# Altium schematic symbol library K-LED-FUSE.SchLib: 166 symbols (part 1 of 2)
Pins are listed as number, name and electrical type; pins without a type are passive.

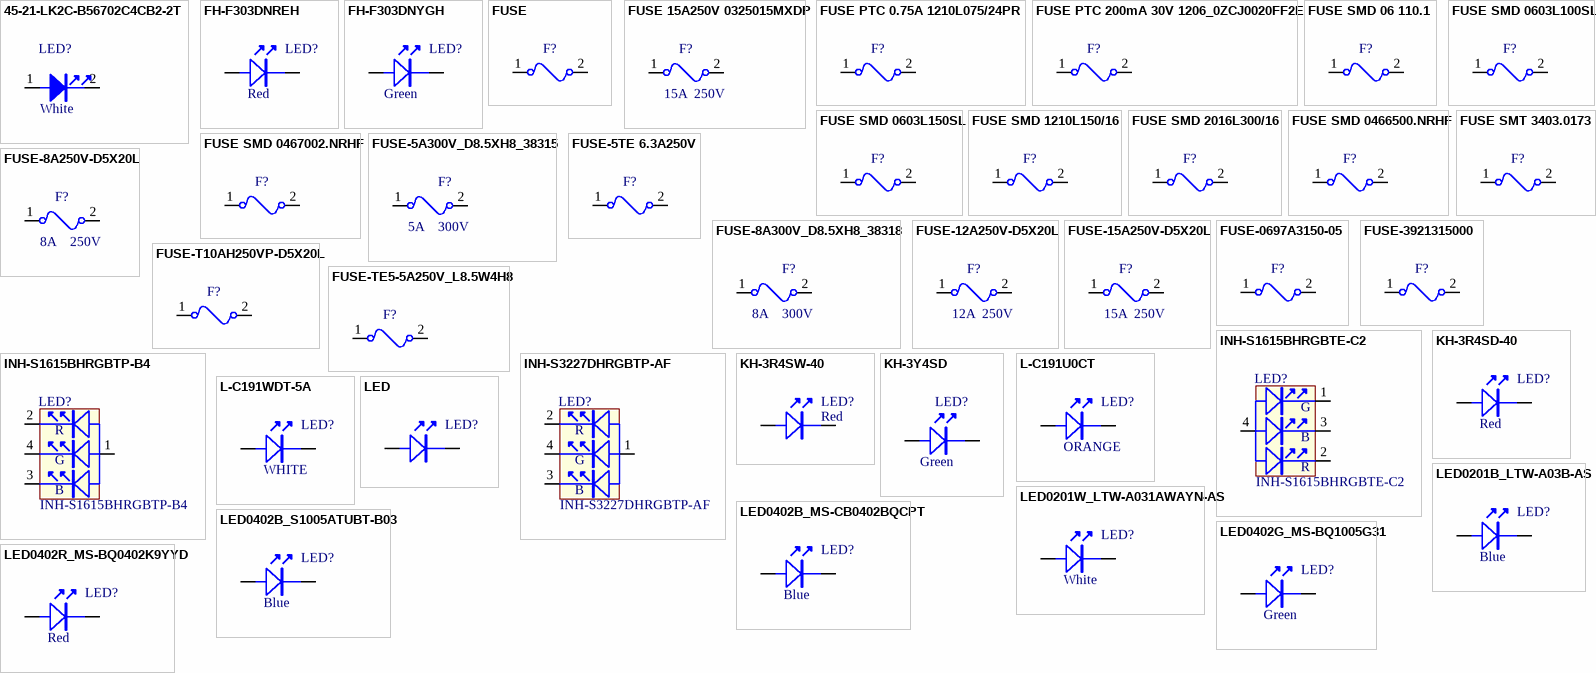
[diagram p0: symbols 45-21-LK2C-B56702C4CB2-2T to LED0402R_MS-BQ0402K9YYD]

## 45-21-LK2C-B56702C4CB2-2T
designator LED?, comment Color: White  (hidden comment: KCD900007-0010)
CHIP LED 45-21-LK2C-B56702C4CB2-2T WHITE 3X2MM 7000K; SAP: T575010560202; MFG: EVERLIGHT; CREATE_NAME: Tom; DIP&SMD: SMD; MFG Part: 45-21-LK2C-B56702C4CB2-2T; Vendor Code: *; Vendor Name: *; Type: LED; CREATE_TIME: 06-May-2015
footprint 45-21-LK2C-B56702C4CB2-2T
pins: 1, 2

## FH-F303DNREH
designator LED?, comment Color: Red  (hidden comment: KED200001-0010)
RED LED 2PIN 3 HIGH LIGHT FH-F303DNREH; SAP: T575009720159; Vendor Code: 10020224; Vendor Name: 深圳市富毅华科技有限公司; MFG: 富毅华; Voltage: 2V; DIP&SMD: DIP; MFG Part: FH-F303DNREH; Type: LED
footprint 3mm LED-R W/Holder_22.5mm (LED DIP Pitch 2.54mm With 22.5 Holder)
footprint 3mm LED-R (LED DIP Pitch 2.54mm)
pins: 1 A, 2 K

## FH-F303DNYGH
designator LED?, comment Color: Green  (hidden comment: KED900007-0010)
LED 3DIA GREEN P=2.54; MFG Part: FH-F303DNYGH; SAP: T575009910159; Vendor Code: 10020224; Vendor Name: 深圳市富毅华科技有限公司; MFG: 富毅华; Voltage: 2.2V; DIP&SMD: DIP; Type: LED
footprint 3mm LED-G (LED DIP Pitch 2.54mm)
footprint 3mm LED-G W/Holder_22.5mm (LED DIP Pitch 2.54mm With 22.5 Holder)
pins: 1 A, 2 K

## FUSE
designator F?
pins: 1, 2

## FUSE 15A250V 0325015MXDP
designator F?  Current: 15A  Voltage: 250V  (hidden comment: *)
FUSE CERAMIC 250V 15A 5.5X2 02150 K; MFG Part: 0325015.MXDP; MFG: Littelfuse; DIP&SMD: DIP; CREATE TIME: 20201029; CREATE NAME: Cherry; SAP: *; Vendor Code: *; Vendor Name: *; Type: FUSE
footprint FUSE-D6.985X32.72L-H (Fuse Body D6.985mm X 32.72mm L)
pins: 1, 2

## FUSE PTC 0.75A 1210L075/24PR
designator F?, comment T690100005200  (value not drawn)
FUSE PTC FUSE 24V 0.75A 1210 1210L K; MFG Part: 1210L075\24PR; MFG: LITTELFUSE; CREATE_NAME: Tom; DIP&SMD: SMD; SAP: T690100005200; Vendor Code: *; Vendor Name: *; Voltage: 24V; Current: 0.75A; Type: FUSE; CREATE_TIME: 05-Aug-2019
footprint 1210-RW
pins: 1, 2

## FUSE PTC 200mA 30V 1206_0ZCJ0020FF2E
designator F?, comment T690100003000  (value not drawn)
FUSE FUSE 30V 200MA 1206 0ZCJ0 K; MFG Part: 0ZCJ0020FF2E; MFG: BEL FUSE; CREATE_NAME: Nathan; DIP&SMD: SMD; SAP: T690100003000; Vendor Code: *; Vendor Name: *; Voltage: 30V; Current: 200mA; Type: FUSE; CREATE_Time: 07-Nov-2017
footprint FUSE PTC 1206
pins: 1, 2

## FUSE SMD 06 110.1
designator F?
Fuse ,0603_1A 06 110.1,ASTM; MFG: Advanced SurgeTech Materials Ltd; Current: 2A; CREATE_NAME: Nathan; DIP&SMD: SMD; SAP: *; Vendor Code: *; Vendor Name: *; MFG Part: 06 110.1; Voltage: *; Type: FUSE; CREATE_Time: 10-Mar-2021
footprint FUSE SMD 0603 H0.48
pins: 1, 2

## FUSE SMD 0603L100SL
designator F?
FUSE 0603L100SL; MFG: Littelfuse; CREATE_NAME: Nathan; DIP&SMD: SMD; SAP: *; Vendor Code: *; Vendor Name: *; MFG Part: 0603L100SL; Voltage: *; Type: FUSE; CREATE_Time: 31-May-2021
footprint FUSE SMD 0603 H0.75 (Size: 0603 H: 0.4mm-0.75mm)
pins: 1, 2

## FUSE SMD 0603L150SL
designator F?
FUSE 0603L150SL; MFG: Littelfuse; CREATE_NAME: Nathan; DIP&SMD: SMD; SAP: *; Vendor Code: *; Vendor Name: *; MFG Part: 0603L150SL; Voltage: *; Type: FUSE; CREATE_Time: 31-May-2021
footprint FUSE SMD 0603 H1.0 (Size: 0603 H: 0.4mm-1mm)
pins: 1, 2

## FUSE SMD 1210L150/16
designator F?
FUSE-1.5A 16V; MFG Part: 1210L150/16; MFG: Littelfuse; Current: 2A; Type: FUSE; CREATE_NAME: Nathan; DIP&SMD: SMD; SAP: *; Vendor Code: *; Vendor Name: *; Voltage: *; CREATE_Time: 20-Nov-2020
footprint FUSE SMD 1210
pins: 1, 2

## FUSE SMD 2016L300/16
designator F?
FUSE 2016L300\16; MFG: Littelfuse; Current: 2A; CREATE_NAME: Nathan; DIP&SMD: SMD; SAP: *; Vendor Code: *; Vendor Name: *; MFG Part: 2016L300\16; Voltage: *; Type: FUSE; CREATE_Time: 29-Apr-2021
footprint FSMD2016_H1.6
pins: 1, 2

## FUSE SMD 0466500.NRHF
designator F?
FUSE SMD 63V 0.5A SMD12 0466. W; MFG Part: 0466500.NRHF; SAP: T690100001700; MFG: Littelfuse; CREATE_NAME: Nathan; Vendor Code: *; Vendor Name: *; Voltage: 63V; Current: 0.5A; Type: FUSE; CREATE_Time: 28-Oct-2020; DIP&SMD: SMD
footprint FUSE PTC 1206
pins: 1, 2

## FUSE SMD 0467002.NRHF
designator F?
2A Fuse ,0603_2A0467002.NRHF; MFG: Littelfuse; CREATE_NAME: Nathan; DIP&SMD: SMD; SAP: *; Vendor Code: *; Vendor Name: *; MFG Part: 0467002.NRHF; Voltage: *; Current: 2A; Type: FUSE; CREATE_Time: 19-Nov-2020
footprint FUSE SMD 0603
pins: 1, 2

## FUSE SMT 3403.0173
designator F?  (value not drawn)
FUSE BOARD MNT 5A 250VAC 125VDC; MFG Part: 3403.0173; MFG: Schurter; Current: 1A; CREATE_NAME: Nathan; DIP&SMD: SMD; SAP: *; Vendor Code: *; Vendor Name: *; Voltage: *; Type: FUSE; CREATE_Time: 01-Jul-2020
footprint FUSE SMT 3403.0173 (Body Size: 10.1X3X3mm)
pins: 1, 2

## FUSE-5A300V_D8.5XH8_38315
designator F?, comment Current: 5A  Voltage: 300V  (hidden comment: T690100004800)
FUSE DIP FUSE 300V 5A 8X8.5 38315 K; MFG Part: 38315000000; MFG: Littelfuse; CREATE_NAME: Cherry; CREATE_TIME: 20180103; SAP: T690100004800; Type: FUSE; DIP&SMD: DIP; Customer Specific: N/A
footprint FUSE-383
pins: 1, 2

## FUSE-5TE 6.3A250V
designator F?, comment KOFA20203-0190  (value not drawn)
FUSE SS-5 6.3A 250V 8.5*4.3mm UL/VDE/PSE; MFG Part: FUSE-5TE 6.3A250V; SAP: T690100000200; Vendor Code: 10010322; Vendor Name: 东莞市亿山电子有限公司; MFG: 亿山; DIP&SMD: DIP; Current: 6.3A; Voltage: 250V; Type: FUSE
footprint FUSE-5TE-8440 (Fuse DIP Body 8.4mm X 4mm H7.2mm)
pins: 1, 2

## FUSE-8A250V-D5X20L
designator F?, comment Current: 8A  Voltage: 250V  (hidden comment: T690100004600)
FUSE CERAMIC 250V 8A 5.5X2 02150 K; MFG Part: 0215008.MXEP; MFG: Littelfuse; DIP&SMD: DIP; CREATE NAME: Nathan; SAP: T690100004600; Vendor Code: *; Vendor Name: *; Type: FUSE; CREATE TIME: 22-NOV-2018
footprint FUSE-5T-D5X20L-H (Fuse 5T Body D5mm X 20mm L)
pins: 1, 2

## FUSE-8A300V_D8.5XH8_38318
designator F?, comment Current: 8A  Voltage: 300V  (hidden comment: T690100004000)
FUSE DIP FUSE 300V 8A 8MMX8 38318 K; MFG Part: 38318000000; MFG: Littelfuse; CREATE_NAME: Cherry; CREATE_TIME: 20180103; SAP: T690100004000; Type: FUSE; DIP&SMD: DIP; Customer Specific: N/A
footprint FUSE-383
pins: 1, 2

## FUSE-12A250V-D5X20L
designator F?, comment Current: 12A  Voltage: 250V  (hidden comment: T690100005300)
FUSE CERAMIC 250V 12A 5.5X2 21501 K; MFG Part: 0215012.MXEP; MFG: Littelfuse; DIP&SMD: DIP; CREATE NAME: Nathan; SAP: T690100005300; Vendor Code: *; Vendor Name: *; Type: FUSE; CREATE TIME: 08-Oct-2019
footprint FUSE-5T-D5X20L-H (Fuse 5T Body D5mm X 20mm L)
pins: 1, 2

## FUSE-15A250V-D5X20L
designator F?, comment Current: 15A  Voltage: 250V  (hidden comment: T690100004700)
FUSE CERAMIC 250V 15A 5.5X2 02150 K; MFG Part: 0215015.MXEP; MFG: Littelfuse; DIP&SMD: DIP; CREATE NAME: Nathan; SAP: T690100004700; Vendor Code: *; Vendor Name: *; Type: FUSE; CREATE TIME: 22-NOV-2018
footprint FUSE-5T-D5X20L-H (Fuse 5T Body D5mm X 20mm L)
pins: 1, 2

## FUSE-0697A3150-05
designator F?, comment T690100005600  (value not drawn)
FUSE DIP FUSE 250V 3.15A 8.35X 0697A K; MFG Part: 0697A3150-05; MFG: BEL; CREATE_NAME: Tom; SAP: T690100005600; Current: 3.15A; Voltage: 250V; Type: FUSE; CREATE_TIME: 18-Oct-2019; DIP&SMD: DIP
footprint FUSE-0697A3150-05
pins: 1, 2

## FUSE-3921315000
designator F?, comment T690100003200  (value not drawn)
FUSE DIP FUSE 250V 3.15A TE5 ( 39213 K; MFG Part: 3921315000; MFG: LITTELFUSE; CREATE_NAME: Tom; SAP: T690100003200; Current: 3.15A; Voltage: 250V; Type: FUSE; CREATE_TIME: 18-Oct-2019; DIP&SMD: DIP
footprint FUSE-39213150440
pins: 1, 2

## FUSE-T10AH250VP-D5X20L
designator F?, comment KSFA20100-0031  (value not drawn)
FUSE SLOW UL/VDE Littelfuse 250V 10A; MFG Part: T10AH250VP; SAP: T690100001100; Current: 15A; DIP&SMD: DIP; Vendor Code: *; Vendor Name: *; MFG: Littelfuse; Voltage: 250V; Type: FUSE
footprint FUSE-5T-D5X20L-H (Fuse 5T Body D5mm X 20mm L)
footprint FUSE-5T-D5X20L-V (Fuse 5T Body D5mm X 20mm L)
pins: 1, 2

## FUSE-TE5-5A250V_L8.5W4H8
designator F?, comment T690100003600  (value not drawn)
FUSE DIP FUSE 250V 5A 8X8.5 39215 K; MFG Part: 39215000000; MFG: Littelfuse; CREATE_NAME: Nathan; SAP: T690100003600; Vendor Code: *; Vendor Name: *; Current: 5A; Voltage: 250V; Type: FUSE; CREATE_TIME: 11-Sep-2017; DIP&SMD: DIP
footprint FUSE-TE5-8540 (Fuse DIP Body 8.5mm X 4mm H8mm)
pins: 1, 2

## INH-S1615BHRGBTE-C2
designator LED?, comment MFG Part: INH-S1615BHRGBTE-C2  (hidden comment: T575011860258)
LED RGB 1615 INH-S1615BHR MINGSHOU G; MFG: MINGSHOU(明碩光電); Vr: 5V; CREATE_NAME: Nathan; If: 30mA; DIP&SMD: SMD; SAP: T575011860258; Vendor Code: *; Vendor Name: *; Package: *; CREATE_TIME: 13-Mar-2017; Type: LED
footprint INH-S1615BHRGBTE-C2 (LED 1615 RGB L1.6mmXW1.5 mm H0.6mm)
pins: 1 G, 2 R, 3 B, 4 COM

## INH-S1615BHRGBTP-B4
designator LED?, comment MFG Part: INH-S1615BHRGBTP-B4  (hidden comment: KCD260003-0010)
SMD RBG LED INH-S1615BHRGBTP-B4; SAP: T575009290258; MFG: 东莞市明硕光电科技有限公司; Voltage: 5V; CREATE_NAME: GordonL@Deftronics; Current: 50mA; Vendor Code: *; Vendor Name: *; Package: *; CREATE_TIME: 07-Jun-2014; Type: LED; DIP&SMD: SMD
footprint SMTLED1.6*1.5-RGB (LED 0805 RGB L1.6mmXW1.5 mm H0.6mm)
pins: 1 A, 2 R, 3 B, 4 G

## INH-S3227DHRGBTP-AF
designator LED?, comment MFG Part: INH-S3227DHRGBTP-AF  (hidden comment: KCD260002-0010)
CHIP LED RGB INH-S3227DHRGBTP-AF 1210 RGB全彩; SAP: T575009270258; MFG: 东莞市明硕光电科技有限公司; Voltage: 5V; CREATE_NAME: Kai Ma@Deftronics; Current: 30mA; DIP&SMD: SMD; Vendor Code: *; Vendor Name: *; Package: *; CREATE_TIME: 4-Dec-2013; Type: LED
footprint SMD3227QRGC (LED DUAL Body 3.2mm X 2.7mm)
pins: 1 A, 2 R, 3 B, 4 G

## KH-3R4SD-40
designator LED?, comment Color: Red  (hidden comment: T575011140158)
RED LED 2PIN 3 HIGH LIGHT FH-F303DNREH; MFG Part: KH-3R4SD-40; MFG: MINGSHOU; Voltage: 5V; CREATE_NAME: Tom; DIP&SMD: DIP; SAP: T575011140158; Vendor Code: *; Vendor Name: *; Type: LED; CREATE_TIME: 04-Mar-2016
footprint 3mm LED-R (LED DIP Pitch 2.54mm)
pins: 1 A, 2 K

## KH-3R4SW-40
designator LED?, comment Color: Red  (hidden comment: KED200004-0010)
LED RED KH-3R4SW-40; SAP: T575009650158; Vendor Name: 深圳市明硕光电科技有限公司; MFG: 明硕; Voltage: 2.4V; CREATE_NAME: Nathan; DIP&SMD: DIP; MFG Part: KH-3R4SW-40; Vendor Code: *; Type: LED; CREATE_TIME: 11-Sep-2014
footprint 3mm LED-R (LED DIP Pitch 2.54mm)
pins: 1 A, 2 K

## KH-3Y4SD
designator LED?, comment Color: Green  (hidden comment: KED400001-0010)
LED YELLOW/ROUND 3DIA LED-G 2P P=2.54mm; MFG Part: KH-3Y4SD; SAP: T575009850153; MFG: 明硕光电; Voltage: 5V; CREATE_NAME: GordonL@Deftronics; DIP&SMD: DIP; Vendor Code: *; Vendor Name: *; Type: LED; CREATE_TIME: 08-Oct-2013
footprint 3mm LED-G (LED DIP Pitch 2.54mm)
pins: 1 A, 2 K

## L-C191U0CT
designator LED?, comment Color: ORANGE  (hidden comment: T575012810223)
LED ORA 1.6X0. L-C191U0CT PARA LIG K; MFG: PARA LIGHT; CREATE_NAME: Tom; Lens Type: Water Clear; DIP&SMD: SMD; MFG Part: L-C191U0CT; SAP: T575012810223; Package: 0603; Vendor Code: *; Vendor Name: *; Type: LED; CREATE_TIME: 26-Aug-2019
footprint LED0603_ORANGE H0.6 (1.6mmX0.8mm SMT LED, 0.6mm thickness)
pins: 1 A, 2 K

## L-C191WDT-5A
designator LED?, comment Color: WHITE  (hidden comment: T575012820223)
LED WHI 1.6X0. L-C191WDT-5A PARA LIG K; MFG: PARA LIGHT; CREATE_NAME: Tom; Lens Type: Water Clear; DIP&SMD: SMD; MFG Part: L-C191WDT-5A; SAP: T575012820223; Package: 0603; Vendor Code: *; Vendor Name: *; Type: LED; CREATE_TIME: 26-Aug-2019
footprint LED0603_WHITE H0.6 (1.6mmX0.8mm SMT LED, 0.6mm thickness)
pins: 1 A, 2 K

## LED
designator LED?
pins: 1 A, 2 K

## LED0201B_LTW-A03B-AS
designator LED?  Color: Blue  (hidden comment: *)
LED  LTW-A03B-AS; MFG: Lite ON; CREATE_NAME: Nathan; DIP&SMD: SMD; MFG Part: LTW-A03B-AS; SAP: *; Package: 0201; Vendor Code: *; Vendor Name: *; Type: LED; CREATE_TIME: 03-Jul-2020
footprint LED0201_BLUE H0.15 (0.6mmX0.3mm SMT LED, 0.15mm thickness)
pins: 1 A, 2 K

## LED0201W_LTW-A031AWAYN-AS
designator LED?  Color: White  (hidden comment: *)
LED  LTW-A031AWAYN-AS; MFG: Lite ON; CREATE_NAME: Nathan; DIP&SMD: SMD; MFG Part: LTW-A031AWAYN-AS; SAP: *; Package: 0201; Vendor Code: *; Vendor Name: *; Type: LED; CREATE_TIME: 26-Dec-2019
footprint LED0201_WHITE H0.15 (0.6mmX0.3mm SMT LED, 0.15mm thickness)
pins: 1 A, 2 K

## LED0402B_MS-CB0402BQCPT
designator LED?  Color: Blue  (hidden comment: *)
LED B 460 1.0X0.5 MS-CB0402BQCPT; MFG: 明碩; CREATE_NAME: Nathan; DIP&SMD: SMD; MFG Part: MS-CB0402BQCPT; SAP: *; Package: 0402; Vendor Code: *; Vendor Name: *; Type: LED; CREATE_TIME: 20-Jun-2020; Lens Type: *
footprint LED0402_BLUE H0.45 (1.0mmX0.5mm SMT LED, 0.45mm thickness)
pins: 1 A, 2 K

## LED0402B_S1005ATUBT-B03
designator LED?  Color: Blue  (hidden comment: *)
LED B 460 1.0X0.5 S1005ATUBT-B03; MFG: inhere; CREATE_NAME: Nathan; DIP&SMD: SMD; MFG Part: S1005ATUBT-B03; SAP: *; Package: 0402; Vendor Code: *; Vendor Name: *; Type: LED; CREATE_TIME: 15-Oct-2020; Lens Type: *
footprint LED0402_BLUE H0.43 (1.0mmX0.5mm SMT LED, 0.43mm thickness)
pins: 1 A, 2 K

## LED0402G_MS-BQ1005G31
designator LED?  Color: Green
LED MS-BQ1005G31; MFG: Foxit; CREATE_NAME: Nathan; DIP&SMD: SMD; MFG Part: MS-BQ1005G31; SAP: *; Package: 0402; Vendor Code: *; Vendor Name: *; Type: LED; CREATE_TIME: 18-Mar-2021; Lens Type: *
footprint LED0402_GREEN H0.45 (1.05mmX0.55mm SMT LED, 0.45mm thickness)
pins: 1 A, 2 K

## LED0402R_MS-BQ0402K9YYD
designator LED?  Color: Red
LED MS-BQ0402K9YYD; MFG: Foxit; CREATE_NAME: Nathan; DIP&SMD: SMD; MFG Part: MS-BQ0402K9YYD; SAP: *; Package: 0402; Vendor Code: *; Vendor Name: *; Type: LED; CREATE_TIME: 18-Mar-2021; Lens Type: *
footprint LED0402_RED H0.45 (1.05mmX0.55mm SMT LED, 0.45mm thickness)
pins: 1 A, 2 K

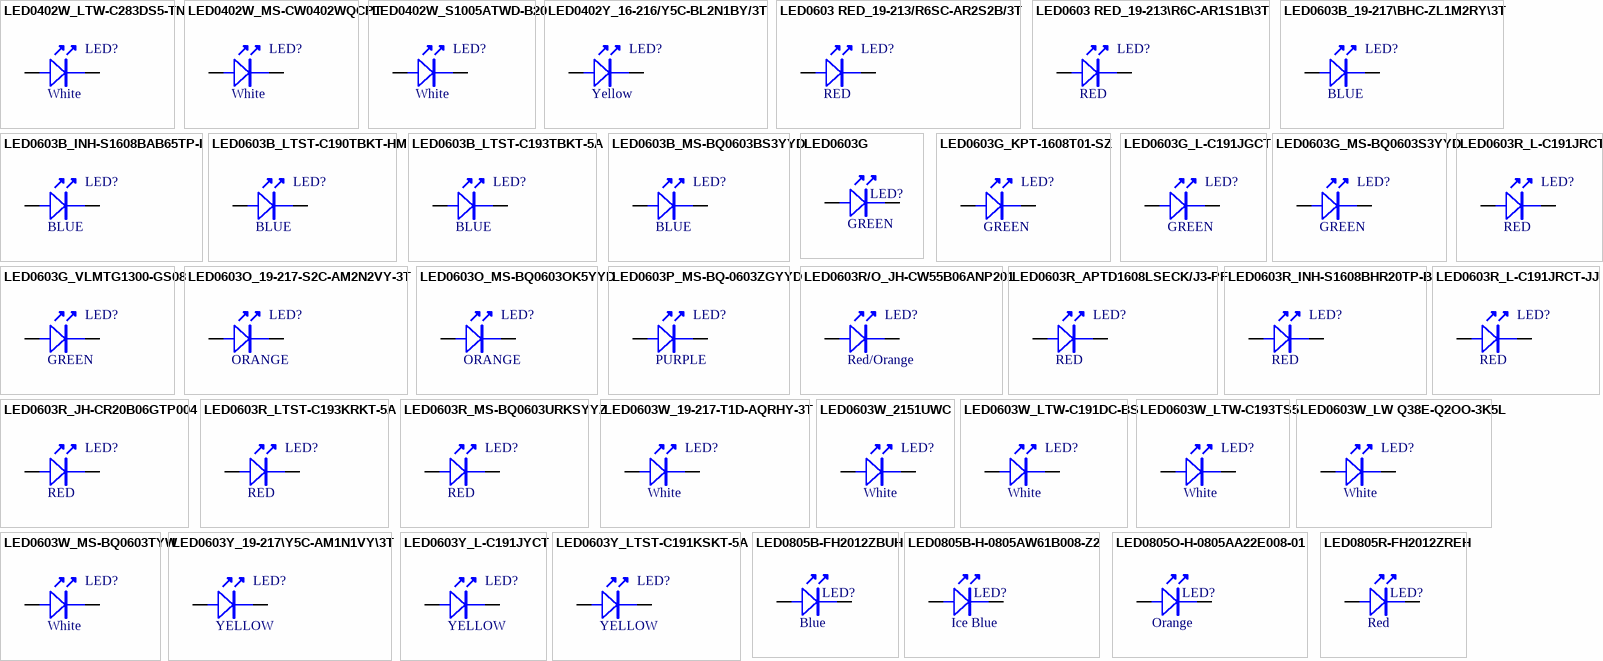
[diagram p1: symbols LED0402W_LTW-C283DS5-TN to LED0805R-FH2012ZREH]

## LED0402W_LTW-C283DS5-TN
designator LED?, comment Color: White  (hidden comment: T575012640204)
LED W 460 1.0X0. LTW-C283DS5- LITEON L; MFG Part: LTW-C283DS5-TN; CREATE_NAME: Nathan; Lens Type: Yellow; DIP&SMD: SMD; SAP: T575012640204; Package: 0402; Vendor Code: *; Vendor Name: *; MFG: LITEON; Type: LED; CREATE_TIME: 06-Mar-2020
footprint LED0402_WHITE H0.2 (1.0mmX0.5mm SMT LED, 0.2mm thickness)
pins: 1 A, 2 K

## LED0402W_MS-CW0402WQCPT
designator LED?  Color: White  (hidden comment: *)
LED W 460 1.0X0.5 MS-CW0402WQCPT; MFG: 明碩; CREATE_NAME: Nathan; DIP&SMD: SMD; MFG Part: MS-CW0402WQCPT; SAP: *; Package: 0402; Vendor Code: *; Vendor Name: *; Type: LED; CREATE_TIME: 20-Jun-2020; Lens Type: *
footprint LED0402_WHITE H0.45 (1.0mmX0.5mm SMT LED, 0.45mm thickness)
pins: 1 A, 2 K

## LED0402W_S1005ATWD-B20
designator LED?  Color: White  (hidden comment: *)
LED B 460 1.0X0.5 S1005ATWD-B20; MFG: inhere; CREATE_NAME: Nathan; DIP&SMD: SMD; MFG Part: S1005ATWD-B20; SAP: *; Package: 0402; Vendor Code: *; Vendor Name: *; Type: LED; CREATE_TIME: 15-Oct-2020; Lens Type: *
footprint LED0402_WHITE H0.43 (1.0mmX0.5mm SMT LED, 0.43mm thickness)
pins: 1 A, 2 K

## LED0402Y_16-216/Y5C-BL2N1BY/3T
designator LED?  Color: Yellow
LED Y 591 1.0*0. 16-216\Y5C-B EVERLIGH; MFG Part: 16-216\Y5C-BL2N1BY\3T; MFG: EVERLIGHT   (億光); CREATE_NAME: Nathan; DIP&SMD: SMD; SAP: *; Package: 0402; Vendor Code: *; Vendor Name: *; Type: LED; CREATE_TIME: 14-Jan-2021; Lens Type: *
footprint LED0402_YELLOW H0.3 (1.0mmX0.5mm SMT LED, 0.3mm thickness)
pins: 1 A, 2 K

## LED0603 RED_19-213/R6SC-AR2S2B/3T
designator LED?, comment Color: RED  (hidden comment: T575011460202)
LED RED 1.6X0. 19-213\R6SC- EVERLIGH K; MFG Part: 19-213/R6SC-AR2S2B/3T; MFG: EVERLIGHT; CREATE_NAME: Nathan; DIP&SMD: SMD; SAP: T575011460202; Package: 0603; Vendor Code: *; Vendor Name: *; Type: LED; CREATE_TIME: 21-Oct-2016; Customer Specific: N/A
footprint LED0603_RED H0.6 (1.6mmX0.8mm SMT LED, 0.6mm thickness)
pins: 1 A, 2 K

## LED0603 RED_19-213\R6C-AR1S1B\3T
designator LED?, comment Color: RED  (hidden comment: T575012750202)
LED RED 1.6X0. 19-213\R6C-A EVERLIGH K; MFG Part: 19-213\R6C-AR1S1B\3T; MFG: EVERLIGHT; CREATE_NAME: Nathan; DIP&SMD: SMD; SAP: T575012750202; Package: 0603; Vendor Code: *; Vendor Name: *; Type: LED; CREATE_TIME: 21-June-2019; Customer Specific: N/A
footprint LED0603_RED H0.6 (1.6mmX0.8mm SMT LED, 0.6mm thickness)
pins: 1 A, 2 K

## LED0603B_19-217\BHC-ZL1M2RY\3T
designator LED?, comment Color: BLUE  (hidden comment: T575002950202)
LED 470 1.6MM* 19-217\BHC-Z EVERLIGH K; MFG Part: 19-217\BHC-ZL1M2RY\3T; MFG: EVERLIGHT(億光); CREATE_NAME: Nathan; Lens Type: Water Clear; DIP&SMD: SMD; SAP: T575002950202; Package: 0603; Vendor Code: *; Vendor Name: *; Type: LED; CREATE_TIME: 14-Nov-2018
footprint LED0603_BLUE (1.6mmx0.8mm SMT LED, 0.45mm max. thickness)
pins: 1 A, 2 K

## LED0603B_INH-S1608BAB65TP-I
designator LED?, comment Color: BLUE  (hidden comment: T575009410258)
LED 465 0603 INH-S1608BAB MINGSHOU G; MFG Part: INH-S1608BAB65TP-I; MFG: MINGSHOU(明碩光電); CREATE_NAME: Nathan; Lens Type: WATER TRANSPARENT; DIP&SMD: SMD; SAP: T575009410258; Package: 0603; Vendor Code: *; Vendor Name: *; Type: LED; CREATE_TIME: 31-Aug-2017
footprint LED0603_BLUE H0.6 (1.6mmX0.8mm SMT LED, 0.6mm thickness)
pins: 1 A, 2 K

## LED0603B_LTST-C190TBKT-HM
designator LED?, comment Color: BLUE  (hidden comment: T575011830204)
LED BLU 1.6*0. LTST-C190TBK LITEON ( K; MFG Part: LTST-C190TBKT-HM; MFG: MINGSHOU(明碩光電); CREATE_NAME: Nathan; Lens Type: WATER TRANSPARENT; DIP&SMD: SMD; SAP: T575011830204; Package: 0603; Vendor Code: *; Vendor Name: *; Type: LED; CREATE_TIME: 30-Jan-2018
footprint LED0603_BLUE H0.8 (1.6mmX0.8mm SMT LED, 0.8mm thickness)
pins: 1 A, 2 K

## LED0603B_LTST-C193TBKT-5A
designator LED?, comment Color: BLUE  (hidden comment: T575011480204)
LED 465 0603 LTST-C193TBK LITEON ( L; MFG Part: LTST-C193TBKT-5A; MFG: LITEON (光寶); CREATE_NAME: Nathan; Lens Type: WALTER CLEAR; DIP&SMD: SMD; SAP: T575011480204; Package: 0603; Vendor Code: *; Vendor Name: *; Type: LED; CREATE_TIME: 28-Feb-2019
footprint LED0603_BLUE (1.6mmx0.8mm SMT LED, 0.45mm max. thickness)
pins: 1 A, 2 K

## LED0603B_MS-BQ0603BS3YYD
designator LED?  Color: BLUE  (hidden comment: *)
LED 0603 MS-BQ0603BS3YYD MINGSHOU; MFG: MINGSHOU(明碩光電); CREATE_NAME: Nathan; Lens Type: WATER TRANSPARENT; DIP&SMD: SMD; MFG Part: MS-BQ0603BS3YYD; SAP: *; Package: 0603; Vendor Code: *; Vendor Name: *; Type: LED; CREATE_TIME: 28-Jul-2020
footprint LED0603_BLUE H0.6 (1.6mmX0.8mm SMT LED, 0.6mm thickness)
pins: 1 A, 2 K

## LED0603G
designator LED?, comment Color: GREEN  (hidden comment: KCD500603-0050)
LED 525 0603 19-217\GHC-Y EVERLIGH K; MFG Part: 19-217\GHC-YN2Q1QY\3T; SAP: T575004250202; MFG: EVERLIGHT(億光); CREATE_NAME: Evan; DIP&SMD: SMD; Package: 0603; Vendor Code: *; Vendor Name: *; Type: LED; CREATE_TIME: 30-Jun-2014
footprint LED0603_GREEN (1.6mmx0.8mm SMT LED, 0.45mm max. thickness)
pins: 1 A, 2 K

## LED0603G_KPT-1608T01-SZ
designator LED?, comment Color: GREEN  (hidden comment: T575012700203)
LED G 574 0603 KPT-1608T01- KING BRI K; MFG Part: KPT-1608T01-SZ; MFG: King bright; CREATE_NAME: Nathan; Lens Type: Water Clear; DIP&SMD: SMD; SAP: T575012700203; Package: 0603; Vendor Code: *; Vendor Name: *; Type: LED; CREATE_TIME: 10-Apr-2019
footprint LED0603_GREEN H0.75 (1.6mmX0.8mm SMT LED, 0.75mm thickness)
pins: 1 A, 2 K

## LED0603G_L-C191JGCT
designator LED?, comment Color: GREEN  (hidden comment: T575012230223)
LED G 570 0603 L-C191JGCT PARA LIG K; MFG: PARA LIGHT; CREATE_NAME: Nathan; Lens Type: Water Clear; DIP&SMD: SMD; MFG Part: L-C191JGCT; SAP: T575012230223; Package: 0603; Vendor Code: *; Vendor Name: *; Type: LED; CREATE_TIME: 15-Jan-2018
footprint LED0603_GREEN H0.6 (1.6mmX0.8mm SMT LED, 0.6mm thickness)
pins: 1 A, 2 K

## LED0603G_MS-BQ0603S3YYD
designator LED?  Color: GREEN  (hidden comment: *)
LED G 0603 MS-BQ0603S3YYD MING SHUO; CREATE_NAME: Nathan; Lens Type: Water Clear; DIP&SMD: SMD; MFG Part: MS-BQ0603S3YYD; SAP: *; Package: 0603; Vendor Code: *; Vendor Name: *; MFG: MING SHUO; Type: LED; CREATE_TIME: 28-Jul-2020
footprint LED0603_GREEN H0.6 (1.6mmX0.8mm SMT LED, 0.6mm thickness)
pins: 1 A, 2 K

## LED0603G_VLMTG1300-GS08
designator LED?  Color: GREEN  (hidden comment: *)
LED G VLMTG1300-GS08; MFG: VISHAY; CREATE_NAME: Nathan; DIP&SMD: SMD; MFG Part: VLMTG1300-GS08; SAP: *; Package: 0603; Vendor Code: *; Vendor Name: *; Type: LED; CREATE_TIME: 29-Jun-2020; Lens Type: *
footprint LED0603_GREEN H0.8 (1.6mmX0.8mm SMT LED, 0.8mm thickness)
pins: 1 A, 2 K

## LED0603O_19-217-S2C-AM2N2VY-3T
designator LED?, comment Color: ORANGE  (hidden comment: T575003450202)
LED ORA 0603 19-217-S2C-A EVERLIGH K; MFG Part: 19-217-T1D-AQRHY-3T; MFG: EVERLIGHT(億光); CREATE_NAME: Nathan; DIP&SMD: SMD; SAP: T575003450202; Package: 0603; Vendor Code: *; Vendor Name: *; Type: LED; CREATE_TIME: 24-Jan-2018
footprint LED0603_ORANGE (1.6mmx0.8mm SMT LED, 0.45mm max. thickness)
pins: 1 A, 2 K

## LED0603O_MS-BQ0603OK5YYD
designator LED?  Color: ORANGE  (hidden comment: *)
LED ORA 1.6*0.8 MS-BQ0603OK5YYD MINGSHOU; CREATE_NAME: Nathan; DIP&SMD: SMD; MFG Part: MS-BQ0603OK5YYD; SAP: *; Package: 0603; Vendor Code: *; Vendor Name: *; MFG: MINGSHOU; Type: LED; CREATE_TIME: 28-Jul-2020
footprint LED0603_ORANGE H0.6 (1.6mmX0.8mm SMT LED, 0.6mm thickness)
pins: 1 A, 2 K

## LED0603P_MS-BQ-0603ZGYYD
designator LED?  Color: PURPLE  (hidden comment: *)
LED PUR 1.6*0.8 MS-BQ-0603ZGYYD MINGSHOU; CREATE_NAME: Nathan; DIP&SMD: SMD; MFG Part: MS-BQ-0603ZGYYD; SAP: *; Package: 0603; Vendor Code: *; Vendor Name: *; MFG: MINGSHOU; Type: LED; CREATE_TIME: 28-Jul-2020
footprint LED0603_PURPLE H0.6 (1.6mmX0.8mm SMT LED, 0.6mm thickness)
pins: 1 A, 2 K

## LED0603R/O_JH-CW55B06ANP201
designator LED?  Color: Red/Orange  (hidden comment: *)
LED  Red/Orange 1.6*0.8 JH-CW55B06ANP201 MINGSHOU; CREATE_NAME: Nathan; DIP&SMD: SMD; MFG Part: JH-CW55B06ANP201; SAP: *; Package: 0603; Vendor Code: *; Vendor Name: *; MFG: MINGSHOU; Type: LED; CREATE_TIME: 29-Jul-2020
footprint LED0603_PURPLE H0.6 (1.6mmX0.8mm SMT LED, 0.6mm thickness)
pins: 1 A, 2 K

## LED0603R_APTD1608LSECK/J3-PF
designator LED?, comment Color: RED  (hidden comment: T575010870203)
CHIP LED APTD1608LSECK/J3-PF Red 0603; MFG: KingBright; CREATE_NAME: Nathan; Lens Type: Water Clear; DIP&SMD: SMD; MFG Part: APTD1608LSECK/J3-PF; SAP: T575010870203; Package: 0603; Vendor Code: *; Vendor Name: *; Type: LED; CREATE_TIME: 06-Aug-2015
footprint LED0603_RED H0.95 (1.6mmX0.8mm SMT LED, 0.95mm thickness)
pins: 1 A, 2 K

## LED0603R_INH-S1608BHR20TP-B
designator LED?, comment Color: RED  (hidden comment: T575009180258)
CHIP LED APTD1608LSECK/J3-PF Red 0603; MFG Part: INH-S1608BHR20TP-B; MFG: MINGSHOU; CREATE_NAME: Tom; Lens Type: WATER TRANSPARENT; DIP&SMD: SMD; SAP: T575009180258; Package: 0603; Vendor Code: *; Vendor Name: *; Type: LED; CREATE_TIME: 22-Jan-2016
footprint LED0603_RED H0.6 (1.6mmX0.8mm SMT LED, 0.6mm thickness)
pins: 1 A, 2 K

## LED0603R_JH-CR20B06GTP004
designator LED?, comment Color: RED  (hidden comment: T575012530258)
LED RED 1.6X0. JH-CR20B06GT MINGSHOU L; MFG Part: JH-CR20B06GTP004; CREATE_NAME: Nathan; Lens Type: WATER TRANSPARENT; DIP&SMD: SMD; SAP: T575012530258; Package: 0603; Vendor Code: *; Vendor Name: *; MFG: MINGSHOU; Type: LED; CREATE_TIME: 26-Sep-2018
footprint LED0603_RED H0.6 (1.6mmX0.8mm SMT LED, 0.6mm thickness)
pins: 1 A, 2 K

## LED0603R_L-C191JRCT
designator LED?, comment Color: RED  (hidden comment: T575012250223)
LED R 631 0603 L-C191JRCT PARA LIG K; MFG: PARA LIGHT; CREATE_NAME: Nathan; Lens Type: Water Clear; DIP&SMD: SMD; MFG Part: L-C191JRCT; SAP: T575012250223; Package: 0603; Vendor Code: *; Vendor Name: *; Type: LED; CREATE_TIME: 15-Jan-2018
footprint LED0603_RED H0.6 (1.6mmX0.8mm SMT LED, 0.6mm thickness)
pins: 1 A, 2 K

## LED0603R_L-C191JRCT-JJ
designator LED?, comment Color: RED  (hidden comment: T575012580223)
LED R 631 0603 L-C191JRCT-J PARA LIG K; MFG Part: L-C191JRCT-JJ; MFG: PARA LIGHT; CREATE_NAME: Nathan; Lens Type: Water Clear; DIP&SMD: SMD; SAP: T575012580223; Package: 0603; Vendor Code: *; Vendor Name: *; Type: LED; CREATE_TIME: 06-Nov-2018
footprint LED0603_RED H0.6 (1.6mmX0.8mm SMT LED, 0.6mm thickness)
pins: 1 A, 2 K

## LED0603R_LTST-C193KRKT-5A
designator LED?, comment Color: RED  (hidden comment: T575011490204)
LED R 631 1.8*0. LTST-C193KRK LITEON ( L; MFG Part: LTST-C193KRKT-5A; MFG: LITEON (光寶); CREATE_NAME: Nathan; Lens Type: WALTER CLEAR; DIP&SMD: SMD; SAP: T575011490204; Package: 0603; Vendor Code: *; Vendor Name: *; Type: LED; CREATE_TIME: 27-Feb-2020
footprint LED0603_RED (1.6mmx0.8mm SMT LED, 0.45mm max. thickness)
pins: 1 A, 2 K

## LED0603R_MS-BQ0603URKSYYZ
designator LED?  Color: RED  (hidden comment: *)
LED RED 1.6X0.8 MS-BQ0603URKSYYZ MING SHUO; CREATE_NAME: Nathan; DIP&SMD: SMD; MFG Part: MS-BQ0603URKSYYZ; SAP: *; Package: 0603; Vendor Code: *; Vendor Name: *; MFG: MING SHUO; Type: LED; CREATE_TIME: 28-Jul-2020; Customer Specific: N/A
footprint LED0603_RED H0.6 (1.6mmX0.8mm SMT LED, 0.6mm thickness)
pins: 1 A, 2 K

## LED0603W_19-217-T1D-AQRHY-3T
designator LED?, comment Color: White  (hidden comment: T575006150202)
LED WHI 0603 19-217-T1D-A EVERLIGH K; MFG Part: 19-217-T1D-AQRHY-3T; MFG: EVERLIGHT(億光); Creat Name: Nathan; SAP: T575006150202; Package: 0603; Vendor Code: *; Vendor Name: *; Type: LED; Creat Time: 25-OCT-2016
footprint LED0603_WHITE (1.6mmx0.8mm SMT LED, 0.45mm max. thickness)
pins: 1 A, 2 K

## LED0603W_2151UWC
designator LED?, comment Color: White  (hidden comment: T575009590258)
LED WHI 1.6*0. 2151UWC MINGSHOU G; CREATE_NAME: Tom; DIP&SMD: SMD; MFG Part: 2151UWC; SAP: T575009590258; Package: 0603; Vendor Code: *; Vendor Name: *; MFG: MINGSHOU; Type: LED; CREATE_TIME: 23-Nov-2015
footprint LED0603_WHITE H0.6 (1.6mmX0.8mm SMT LED, 0.6mm thickness)
pins: 1 A, 2 K

## LED0603W_LTW-C191DC-BS
designator LED?, comment Color: White  (hidden comment: T575011740204)
LED WHI 1.6*0. LTW-C191DC-B LITEON ( K; MFG Part: LTW-C1910DC-BS; MFG: LITEON   (光寶); VF: 3.1V; CREATE_NAME: Nathan; DIP&SMD: SMD; SAP: T575011740204; Vendor Code: *; Vendor Name: *; Type: LED; CREATE_TIME: 21-Dec-2016
footprint LED0603_WHITE H0.55
pins: 1 A, 2 K

## LED0603W_LTW-C193TS5
designator LED?, comment Color: White  (hidden comment: T575006280204)
LED WHI 1.6*0. LTW-C193TS5 LITEON ( L; MFG: LITEON   (光寶); VF: 3.15V; CREATE_NAME: Nathan; DIP&SMD: SMD; MFG Part: LTW-C193TS5; SAP: T575006280204; Vendor Code: *; Vendor Name: *; Type: LED; CREATE_TIME: 07-May-2018
footprint LED0603_WHITE (1.6mmx0.8mm SMT LED, 0.45mm max. thickness)
pins: 1 A, 2 K

## LED0603W_LW Q38E-Q2OO-3K5L
designator LED?  Color: White  (hidden comment: *)
LED W 820 0603 LW Q38E-Q2OO OSRAM L; MFG Part: LW Q38E-Q2OO-3K5L; CREATE_NAME: Nathan; DIP&SMD: SMD; SAP: *; Vendor Code: *; Vendor Name: *; MFG: OSRAM; VF: *; Type: LED; CREATE_TIME: 09-Jul-2020
footprint LED0603_WHITE (1.6mmx0.8mm SMT LED, 0.45mm max. thickness)
pins: 1 A, 2 K

## LED0603W_MS-BQ0603TYW
designator LED?  Color: White  (hidden comment: *)
LED WHI 1.6*0.8 MS-BQ0603TYW MINGSHOU; CREATE_NAME: Nathan; DIP&SMD: SMD; MFG Part: MS-BQ0603TYW; SAP: *; Package: 0603; Vendor Code: *; Vendor Name: *; MFG: MINGSHOU; Type: LED; CREATE_TIME: 28-Jul-2020
footprint LED0603_WHITE H0.6 (1.6mmX0.8mm SMT LED, 0.6mm thickness)
pins: 1 A, 2 K

## LED0603Y_19-217\Y5C-AM1N1VY\3T
designator LED?  Color: YELLOW
19-217\Y5C-AM1N1VY\3T; MFG: Everlight; Type: LED; CREATE_NAME: Nathan; Lens Type: Water Clear; DIP&SMD: SMD; MFG Part: 19-217\Y5C-AM1N1VY\3T; SAP: *; Package: 0603; Vendor Code: *; Vendor Name: *; CREATE_TIME: 01-Apr-2021
footprint LED0603_YELLOW (1.6mmx0.8mm SMT LED, 0.45mm max. thickness)
pins: 1 A, 2 K

## LED0603Y_L-C191JYCT
designator LED?, comment Color: YELLOW  (hidden comment: T575012240223)
LED Y 590 0603 L-C191JYCT PARA LIG K; MFG: PARA LIGHT; CREATE_NAME: Nathan; Lens Type: Water Clear; DIP&SMD: SMD; MFG Part: L-C191JYCT; SAP: T575012240223; Package: 0603; Vendor Code: *; Vendor Name: *; Type: LED; CREATE_TIME: 15-Jan-2018
footprint LED0603_YELLOW H0.6 (1.6mmX0.8mm SMT LED, 0.6mm thickness)
pins: 1 A, 2 K

## LED0603Y_LTST-C191KSKT-5A
designator LED?, comment Color: YELLOW  (hidden comment: T575010200204)
LED 588 0603 LTST-C191KSK LITEON ( L; MFG Part: LTST-C191KSKT-5A; MFG: LITEON (光寶); CREATE_NAME: Nathan; Lens Type: Water Clear; DIP&SMD: SMD; SAP: T575010200204; Package: 0603; Vendor Code: *; Vendor Name: *; Type: LED; CREATE_TIME: 24-Apr-2019
footprint LED0603_YELLOW H0.55 (1.6mmX0.8mm SMT LED, 0.55mm thickness)
pins: 1 A, 2 K

## LED0805B-FH2012ZBUH
designator LED?, comment Color: Blue  (hidden comment: KCD600805-0020)
CHIP LED BLUE FH-2012ZBUH 高亮 TYPE 0805; MFG Part: FH2012ZBUH; SAP: T575009450259; Vendor Code: 10020224; Vendor Name: 深圳市富毅华科技有限公司; MFG: 富毅华; DIP&SMD: SMD; Package: 0805; Type: LED
footprint LED0805-Blue
pins: 1 A, 2 K

## LED0805B-H-0805AW61B008-Z2
designator LED?, comment Color: Ice Blue  (hidden comment: T575011290263)
LED 750 2.0X1. H-0805AW61B0 HONGBRIG G; MFG Part: H-0805AW61B008-Z2; MFG: HONGBRIGHT (弘亮光電); CREATE_NAME: Nathan; DIP&SMD: SMD; SAP: T575011290263; Package: 0805; Vendor Code: *; Vendor Name: *; Type: LED; CREATE_TIME: 31-OCT-2016
footprint LED0805-Blue
pins: 1 A, 2 K

## LED0805O-H-0805AA22E008-01
designator LED?, comment Color: Orange  (hidden comment: KCD300805-0020)
CHIP LED Orange H-0805AA22E008-01 600-608NM AMBER 0805; SAP: T575010400263; Pd: 60mW; MFG: HongBright; DIP&SMD: SMD; MFG Part: H-0805AA22E008-01; Package: 0805; Vendor Code: *; Vendor Name: *; Voltage: *; Type: LED; Wavelength: 600-608NM
footprint LED0805-Orange
pins: 1 A, 2 K

## LED0805R-FH2012ZREH
designator LED?, comment Color: Red  (hidden comment: KCD200805-0030)
SMD0805 RED COLOUR LED; MFG Part: FH2012ZREH; SAP: T575009260259; Vendor Code: 10020224; Vendor Name: 深圳市富毅华科技有限公司; MFG: 富毅华; DIP&SMD: SMD; Package: 0805; Type: LED
footprint LED0805-Red
pins: 1 A, 2 K

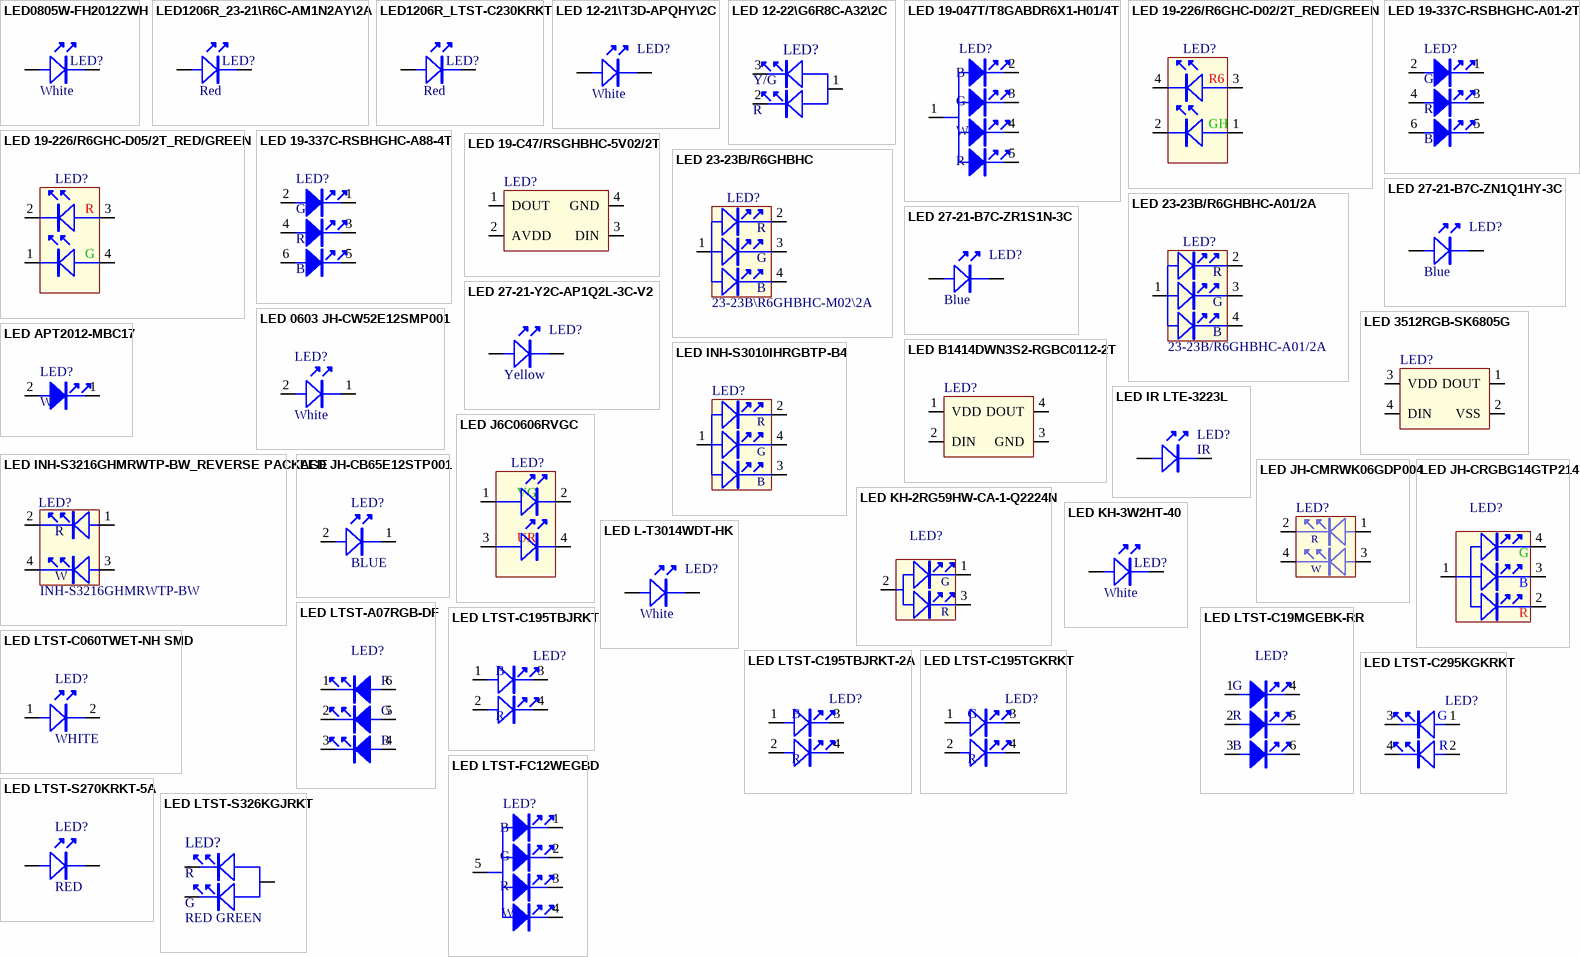
[diagram p2: symbols LED0805W-FH2012ZWH to LED LTST-S326KGJRKT]

## LED0805W-FH2012ZWH
designator LED?, comment Color: White  (hidden comment: KCD900805-0010)
CHIP LED WHITE 114mW 3V TYPE 0805; MFG Part: FH2012ZWH; SAP: T575009580259; Vendor Code: 10020224; Vendor Name: 深圳市富毅华科技有限公司; MFG: 富毅华; DIP&SMD: SMD; Package: 0805; Voltage: 3V; Power: 114mW; Type: LED
footprint LED0805-White
pins: 1 A, 2 K

## LED1206R_23-21\R6C-AM1N2AY\2A
designator LED?  Color: Red  (hidden comment: *)
CHIP LED RED TYPE 1206; MFG Part: 23-21\R6C-AM1N2AY\2A; MFG: EVERLIGHT; DIP&SMD: SMD; CREATE_NAME: Nathan; SAP: *; Package: 1206; Type: LED; CREATE_TIME: 18-Aug-2020
footprint LED1206-RED
pins: 1 A, 2 K

## LED1206R_LTST-C230KRKT
designator LED?  Color: Red  (hidden comment: *)
CHIP LED RED TYPE 1206; MFG Part: LTST-C230KRKT; MFG: LITEON; DIP&SMD: SMD; CREATE_NAME: Nathan; SAP: *; Package: 1206; Type: LED; CREATE_TIME: 18-Aug-2020
footprint LED1206-RED
pins: 1 A, 2 K

## LED 12-21\T3D-APQHY\2C
designator LED?, comment Color: White  (hidden comment: KCD900006-0010)
LED WHI 3X2X1 12-21\T3D-AP EVERLIGH K; MFG Part: 12-21\T3D-APQHY\2C; SAP: T575010520202; Vr: 5V; Power: 60mW; MFG: EVERLIGHT; If: 25mA; Ifp: 60mA; DIP&SMD: SMD; Vendor Code: *; Vendor Name: *; Type: LED
footprint LED 12-21\T3D-APQHY\2C (12-21\T3D-APQHY\2C)
pins: 1 A, 2 K

## LED 12-22\G6R8C-A32\2C
designator LED?, comment T575010220202  (value not drawn)
LED 575 3*2MM 12-22\G6R8C- EVERLIGH K; MFG Part: 12-22\G6R8C-A32\2C; MFG: EVERLIGHT(億光); CREATE_NAME: Nathan; DIP&SMD: SMD; Color: Yellow Green Red; SAP: T575010220202; Vendor Name: *; Vendor Code: *; Type: LED; CREATE_TIME: 24-Apr-2019
footprint LED 12-22/G6R8C-A32/2C (SMD1204 3P)
pins: 1 R, 2, 3 G
text: Y/G

## LED 19-047T/T8GABDR6X1-H01/4T
designator LED?, comment T575012710202  (value not drawn)
D 463 1.45MM 19-047T\T8GA EVERLIGH L; MFG Part: 19-047T\T8GABDR6X1-H01\4T; MFG: EVERLIGHT; Type: LED; CREATE_NAME: Tom; Color: R/G/B/W; DIP&SMD: SMD; SAP: T575012710202; Vendor Code: *; Vendor Name: *; CREATE_TIME: 17-Apr-2019
footprint LED 19-047T\T8GABDR6X1-H01\4T
pins: 1, 2, 3, 4, 5
text: B; G; W; R

## LED 19-226/R6GHC-D02/2T_RED/GREEN
designator LED?  (value not drawn)
SMD LED 19-226/R6GHC-D02/2T  RED/GREEN; MFG: EVERLIGHT; CREATE_NAME: Nathan; SAP: *; MFG Part: 19-226/R6GHC-D02/2T; Vendor Code: *; Vendor Name: *; Type: LED; CREATE_TIME: 10-Jul-2020; DIP&SMD: SMD; Customer Specific: N/A
footprint LED 19-226/R6GHC-D02/2T (Chip LEDs with Bi-Color)
pins: 1, 2, 3, 4
text: R6; GH

## LED 19-226/R6GHC-D05/2T_RED/GREEN
designator LED?, comment T575011450202  (value not drawn)
SMD LED 19-226/R6GHC-D05/2T  RED/GREEN; MFG: EVERLIGHT; CREATE_NAME: Nathan; SAP: T575011450202; MFG Part: 19-226/R6GHC-D05/2T; Vendor Code: *; Vendor Name: *; Type: LED; CREATE_TIME: 21-Sep-2016; DIP&SMD: SMD; Customer Specific: N/A
footprint LED 19-226/R6GHC-D05/2T (Chip LEDs with Bi-Color)
pins: 1, 2, 3, 4
text: R; G

## LED 19-337C-RSBHGHC-A01-2T
designator LED?, comment T575012540202  (value not drawn)
LED 465 1.6MM* 19-337C-RSBH EVERLIGH L; MFG Part: 19-337C-RSBHGHC-A01-2T; MFG: EVERLIGHT; CREATE_NAME: Tom; Color: R/G/B; DIP&SMD: SMD; SAP: T575012540202; Vendor Code: *; Vendor Name: *; Type: LED; CREATE_TIME: 17-Apr-2019
footprint LED 19-337C-RSBHGHC-A01-2T
pins: 1, 2, 3, 4, 5, 6
text: G; R; B

## LED 19-337C-RSBHGHC-A88-4T
designator LED?
LED 19-337C-RSBH EVERLIGH L; MFG Part: 19-337C-RSBHGHC-A88-4T; MFG: EVERLIGHT; CREATE_NAME: Nathan; Color: R/G/B; DIP&SMD: SMD; SAP: *; Vendor Code: *; Vendor Name: *; Type: LED; CREATE_TIME: 15-Dec-2020
footprint LED 19-337C
pins: 1, 2, 3, 4, 5, 6
text: G; R; B

## LED 19-C47/RSGHBHC-5V02/2T
designator LED?  (value not drawn)
LED 19-C47/RSGHBHC-5V02/2T; MFG: Everlight; CREATE_NAME: Nathan; DIP&SMD: SMD; SAP: *; Vendor Code: *; Vendor Name: *; MFG Part: 19-C47/RSGHBHC-5V02/2T; CREATE_TIME: 06-Jun-2020; Type: LED
footprint LED 19-C47/RSGHBHC-5V02/2T
pins: 1 DOUT, 2 AVDD, 3 DIN, 4 GND

## LED 23-23B/R6GHBHC
designator LED?  MFG Part: 23-23B\R6GHBHC-M02\2A
DSE-0019876-23-23B-R6GHBHC-M02-2A-V1; MFG: EVERLIGHT; CREATE_NAME: Nathan; Type: LED; DIP&SMD: SMD; SAP: *; Vendor Code: *; Vendor Name: *; Voltage: *; Package: *; CREATE_TIME: 16-Jun-2021; Current: *; Customer Specific: N/A
footprint LED 23-23B/R6GHBHC_REVERSE MOUNT (LED SMD  L3.2mmXW1.25 mm H1.1mm (反貼))
pins: 1 A, 2 R, 3 B, 4 G

## LED 23-23B/R6GHBHC-A01/2A
designator LED?, comment MFG Part: 23-23B/R6GHBHC-A01/2A  (hidden comment: T575012140202)
LED RGB 1615 23-23B\R6; MFG: EVERLIGHT; CREATE_NAME: Nathan; DIP&SMD: SMD; SAP: T575012140202; Vendor Code: *; Vendor Name: *; Voltage: *; Package: *; CREATE_TIME: 01-Dec-2017; Current: *; Type: LED; Customer Specific: N/A
footprint LED 23-23B/R6GHBHC-A01/2A_REVERSE MOUNT (LED SMD  L3.2mmXW1.25 mm H1.1mm (反貼))
pins: 1 A, 2 R, 3 B, 4 G

## LED 27-21-B7C-ZN1Q1HY-3C
designator LED?  Color: Blue  (hidden comment: *)
LED 27-21-B7C-ZN1Q1HY-3C  EVERLIGH K; MFG: EVERLIGHT; DIP&SMD: SMD; CREATE_NAME: Nathan; MFG Part: 27-21-B7C-ZN1Q1HY-3C; SAP: *; Vendor Code: *; Vendor Name: *; Vr: *; Power: *; Type: LED; If: *; Ifp: *; CREATE_TIME: 20-Jun-2020
footprint SMD1.7X0.6_RA
pins: 1 A, 2 K

## LED 27-21-B7C-ZR1S1N-3C
designator LED?, comment Color: Blue  (hidden comment: T575008490202)
LED BLU 6359 27-21-B7C-ZR EVERLIGH G; MFG Part: 27-21-B7C-ZR1S1N-3C; MFG: EVERLIGHT; DIP&SMD: SMD; CREATE_NAME: Nathan; SAP: T575008490202; Vendor Code: *; Vendor Name: *; Vr: *; Power: *; Type: LED; If: *; Ifp: *; CREATE_TIME: 22-Jun-2020
footprint SMD1.7X0.6_RA
pins: 1 A, 2 K

## LED 27-21-Y2C-AP1Q2L-3C-V2
designator LED?, comment Color: Yellow  (hidden comment: T575010210202)
LED 591 0603 27-21-Y2C-AP EVERLIGH K; MFG Part: 27-21-Y2C-AP1Q2L-3C-V2; Vr: 5V; Power: 60mW; MFG: EVERLIGHT; If: 25mA; Ifp: 60mA; DIP&SMD: SMD; CREATE_NAME: Nathan; SAP: T575010210202; Vendor Code: *; Vendor Name: *; Type: LED; CREATE_TIME: 24-APR-2019
footprint SMD0603
pins: 1 A, 2 K

## LED 0603 JH-CW52E12SMP001
designator LED?, comment Color: White  (hidden comment: T575013160258)
LED W WHI 0602 JH-CW52E12SM MINGSHOU L; MFG Part: JH-CW52E12SMP001; CREATE_NAME: Tom; DIP&SMD: SMD; SAP: T575013160258; Package: 0603; MFG: MINGSHOU; Type: LED
footprint LED 0603 JH-CW52E12SMP001
pins: 1 K, 2 A

## LED 3512RGB-SK6805G
designator LED?, comment T575013120272  (value not drawn)
LED-R R62 3.5*1. SK6805G-3512 JINGJU L; MFG Part: SK6805G-3512RGB; CREATE_NAME: Tom; Type: LED; DIP&SMD: SMD; SAP: T575013120272; Vendor Code: *; Vendor Name: *; MFG: JINGJU; CREATE_TIME: 12-Jun-2020
footprint LED 3512RGB-SK6805G
pins: 1 DOUT, 2 VSS, 3 VDD, 4 DIN

## LED APT2012-MBC17
designator LED?, comment T575012200203  (value not drawn)
LED 430 2012 APT2012-MBC1 KING BRI K; MFG Part: APT2012-MBC17; MFG: KING BRIGHT; CREATE_NAME: Tom; Color: W; DIP&SMD: SMD; SAP: T575012200203; Vendor Code: *; Vendor Name: *; Type: LED; CREATE_TIME: 17-Apr-2019
footprint LED APT2012-MBC17
pins: 1, 2

## LED B1414DWN3S2-RGBC0112-2T
designator LED?
B1414DWN3S2-RGBC0112-2T; MFG: EVERLIGHT; CREATE_NAME: Nathan; Type: LED; DIP&SMD: SMD; SAP: *; Vendor Code: *; Vendor Name: *; MFG Part: B1414DWN3S2-RGBC0112-2T; CREATE_TIME: 08-Mar-2021
footprint LED B1414DWN3S2-RGBC0112-2T
pins: 1 VDD, 2 DIN, 3 GND, 4 DOUT

## LED INH-S3010IHRGBTP-B4
designator LED?, comment T575011360258  (value not drawn)
D-R R62 3X1MM INH-S3010IHR MINGSHOU G; MFG Part: INH-S3010IHRGBTP-B4; Type: LED; Color: RGB; CREATE_NAME: Tom; DIP&SMD: SMD; SAP: T575011360258; Vendor Code: *; Vendor Name: *; MFG: MINGSHOU; Voltage: *; CREATE_TIME: 21-Apr-2016
footprint LED INH-S3010IHRGBTP-B4
pins: 1, 2, 3, 4
text: R; G; B

## LED INH-S3216GHMRWTP-BW_REVERSE PACKAGE
designator LED?, comment MFG Part: INH-S3216GHMRWTP-BW  (hidden comment: T575011320258)
LED 520 1206 INH-S3216GHM MINGSHOU G; MFG: MINGSHOU(明碩光電); CREATE_NAME: Joe Chen; DIP&SMD: SMD; SAP: T575011320258; Vendor Code: *; Vendor Name: *; Voltage: *; Package: 1206 紅白雙色反包; CREATE_TIME: 02-Dec-2015; Current: *; Type: LED
footprint LED SMD L3.2W1.6H1.1_REVERSE MOUNT (LED SMD  L3.2mmXW1.6 mm H1.1mm (1206 反貼))
pins: 1 A, 2 R, 3 B, 4 G
text: W

## LED IR LTE-3223L
designator LED?, comment Color: IR  (hidden comment: T575010230104)
IR EM 940 D=5MM LTE-3223L LITEON ( K; Vr: 5V; Power: 150mW; MFG: LITEON (光寶); Type: LED; If: 100mA; CREATE_NAME: Nathan; DIP&SMD: SMD; MFG Part: LTE-3223L; SAP: T575010230104; Vendor Code: *; Vendor Name: *; CREATE_TIME: 24-Apr-2019
footprint 5mm LED-B (LED DIP Pitch 2.54mm)
pins: 1 A, 2 K

## LED J6C0606RVGC
designator LED?
SMD LED J6C0606RVGC; MFG: JING JU; CREATE_NAME: Nathan; SAP: *; MFG Part: J6C0606RVGC; Vendor Code: *; Vendor Name: *; Type: LED; CREATE_TIME: 15-Jan-2021; DIP&SMD: SMD; Customer Specific: N/A
footprint SMTLED J6C0606RVGC (LED 1.6*1.6*0.6  RGB)
pins: 1, 2, 3, 4
text: VG; UR

## LED JH-CB65E12STP001
designator LED?  Color: BLUE  (hidden comment: *)
LED JH-CB65E12STP001; MFG: MINGSUO; CREATE_NAME: Tom; DIP&SMD: SMD; MFG Part: JH-CB65E12STP001; SAP: *; Vendor Code: *; Vendor Name: *; Voltage: *; Type: LED; CREATE_TIME: 28-Apr-2020
footprint LED0603_SE (Footprint not found)
pins: 1 A, 2 C

## LED JH-CMRWK06GDP004
designator LED?, comment T575012460258  (value not drawn)
WHITE W:7 1.6MM JH-CMRWK06GD MINGSHOU K; MFG Part: JH-CMRWK06GDP004; MFG: 明硕光电; Type: LED; CREATE_NAME: Nathan; DIP&SMD: SMD; SAP: T575012460258; Vendor Code: *; Vendor Name: *; CREATE_TIME: 30-July-2018; Customer Specific: N/A
footprint LED JH-CMRWK06GDP004 (0605 Red/White LED SJH-CMRWK06GDP004)
pins: 1, 2, 3 K, 4
text: R; W

## LED JH-CRGBG14GTP214
designator LED?, comment T575012890258  (value not drawn)
LED-R R62 3010 JH-CRGBG14GT MINGSHOU K; MFG Part: JH-CRGBG14GTP214; MFG: MINGSUO; CREATE_NAME: Tom; Type: LED; DIP&SMD: SMD; SAP: T575012890258; CREATE_TIME: 31-Oct-2019
footprint LED JH-CRGBG14GTP214
pins: 1 B, 2 R, 3 G, 4 COM

## LED KH-2RG59HW-CA-1-Q2224N
designator LED?, comment T575011470158  (value not drawn)
LED R(6 7MM*5M KH-2RG59HW-C MINGSHOU K; MFG Part: KH-2RG59HW-CA-1-Q2224N; MFG: HONGBRIGHT; CREATE_NAME: Nathan; DIP&SMD: DIP; SAP: T575011470158; Type: LED; CREATE_TIME: 28-Dec-2018
footprint KH-2RG59HW-CA-1-Q2224N
pins: 1, 2, 3 K
text: G; R

## LED KH-3W2HT-40
designator LED?, comment Color: White  (hidden comment: T575011390158)
LED WHI H5.4\D KH-3W2HT-40 MINGSHOU K; DIP&SMD: DIP; CREATE_NAME: Tom; MFG Part: KH-3W2HT-40; SAP: T575011390158; Vendor Code: *; Vendor Name: *; MFG: MINGSHOU; Voltage: *; Type: LED; CREATA_TIME: 27-Mar-2018
footprint 3mm LED-KH-3W2HT-40_5.4mm
footprint 3mm LED-W (LED DIP Pitch 2.54mm)
pins: 1 A, 2 K

## LED L-T3014WDT-HK
designator LED?, comment Color: White  (hidden comment: T575011380223)
LED G 450 2.36X1 L-T3014WDT-H PARA LIG G; MFG Part: L-T3014WDT-HK; Vr: 5V; Power: 105mW; MFG: PARA LIGHT(光秥); If: 30mA; Ifp: 100mA; CREATE_NAME: Nathan; DIP&SMD: SMD; SAP: T575011380223; Vendor Code: *; Vendor Name: *; Type: LED; CREATE_TIME: 18-SEP-2017
footprint LED L-T3014WDT-HK (SMD LED L-T3014WDT-H)
pins: 1 A, 2 K

## LED LTST-A07RGB-DF
designator LED?  (value not drawn)
DUAL RGB LTST-A07RGB-DF LITEON; MFG: LITEON    (光寶); Type: LED; CREATE_NAME: Nathan; DIP&SMD: SMD; SAP: *; MFG Part: LTST-A07RGB-DF; Vendor Code: *; Vendor Name: *; CREATE_TIME: 24-Aug-2020; Color: RGB
footprint LTST-A07RGB-DF
pins: 1, 2, 3, 4, 5, 6
text: R; G; B

## LED LTST-C19MGEBK-RR
designator LED?
LTST-C19MGEBK-RR; MFG: LITEON    (光寶); Type: LED; CREATE_NAME: Nathan; DIP&SMD: SMD; Color: RGB; SAP: *; MFG Part: LTST-C19MGEBK-RR; Vendor Code: *; Vendor Name: *; CREATE_TIME: 27-Feb-2021
footprint LED LTST-C19MGEBK-RR
pins: 1, 2, 3, 4, 5, 6
text: G; R; B

## LED LTST-C060TWET-NH SMD
designator LED?, comment Color: WHITE  (hidden comment: T575012110204)
LED 440 2.2*1. LTST-C060TWE LITEON K; MFG Part: LTST-C060TWET-NH; MFG: LITEON   (光寶); CREATE_NAME: Nathan; DIP&SMD: SMD; SAP: T575012110204; Vendor Code: *; Vendor Name: *; Voltage: *; Type: LED; CREATE_TIME: 04-Dec-2017
footprint LED LTST-C060TWET-NH (SMD LED LTST-C060TWET-NH 尺寸: 2.2*1.6*0.55)
pins: 1 A, 2 C

## LED LTST-C195TBJRKT
designator LED?, comment T575011650204  (value not drawn)
DUAL RED 1.6MM* LTST-C195TBJ LITEON ( K; MFG Part: LTST-C195TBJRKT; MFG: LITEON    (光寶); Type: LED; CREATE_NAME: Nathan; DIP&SMD: SMD; SAP: T575011650204; Vendor Code: *; Vendor Name: *; CREATE_TIME: 27-Feb-2020
footprint LED LTST-C195TBJRKT (LED 1615 RGB L1.6mmXW1.5 mm H0.55mm)
pins: 1, 2, 3, 4
text: B; R

## LED LTST-C195TBJRKT-2A
designator LED?, comment T575011680204  (value not drawn)
LED 470 1.6MM LTST-C195TBJ LITEON ( L; MFG Part: LTST-C195TBJRKT-2A; MFG: LITEON    (光寶); CREATE_NAME: Nathan; DIP&SMD: SMD; SAP: T575011680204; Vendor Code: *; Vendor Name: *; Type: LED; CREATE_TIME: 25-Aug-2020
footprint LED LTST-C195TBJRKT (LED 1615 RGB L1.6mmXW1.5 mm H0.55mm)
pins: 1, 2, 3, 4
text: B; R

## LED LTST-C195TGKRKT
designator LED?, comment T575012380204  (value not drawn)
LED G=5 1.6*1. LTST-C195TGK LITEON K; MFG Part: LTST-C195TGKRKT; MFG: LITEON    (光寶); CREATE_NAME: Nathan; DIP&SMD: SMD; SAP: T575012380204; Vendor Code: *; Vendor Name: *; Type: LED; CREATE_TIME: 19-Sep-2018
footprint LED LTST-C195TGKRKT (LED 1615 RGB L1.6mmXW1.5 mm H0.55mm)
pins: 1, 2, 3, 4
text: G; R

## LED LTST-C295KGKRKT
designator LED?
LTST-C295KGKRKT; MFG: LITEON; Type: LED; CREATE_NAME: Nathan; DIP&SMD: SMD; SAP: *; MFG Part: LTST-C295KGKRKT; Vendor Code: *; Vendor Name: *; CREATE_TIME: 01-APR-2021
footprint SMTLED LTST-C295KGKRKT (LED WHI 1.6*0.8. LTST-C295KGKRKT  GREEN/RED)
pins: 1, 2, 3, 4
text: G; R

## LED LTST-FC12WEGBD
designator LED?
LTST-FC12WEGBD-HL; MFG: LiteOn; Type: LED; CREATE_NAME: Tom; Color: R/G/B/W; DIP&SMD: SMD; SAP: *; MFG Part: LTST-FC12WEGBD-HL; Vendor Code: *; Vendor Name: *; CREATE_TIME: 20-Feb-2020
footprint LED LTST-FC12WEGBD (LTST-FC12WEGBD)
pins: 1, 2, 3, 4, 5
text: B; G; R; W

## LED LTST-S270KRKT-5A
designator LED?  Color: RED  (hidden comment: *)
LED LTST-S270KRKT-5A; MFG: LITE ON; CREATE_NAME: Nathan; DIP&SMD: SMD; MFG Part: LTST-S270KRKT-5A; SAP: *; Vendor Code: *; Vendor Name: *; Voltage: *; Type: LED; CREATE_TIME: 25-Aug-2020
footprint SMD 1.65X0.68_RA
pins: 1 A, 2 C

## LED LTST-S326KGJRKT
designator LED?, comment Color: RED GREEN  (hidden comment: T575010260204)
LED 571 3MM*2M LTST-S326KGJ LITEON ( K; MFG Part: LTST-S326KGJRKT; MFG: LITEON (光寶); CREATE_NAME: Nathan; DIP&SMD: SMD; SAP: T575010260204; Vendor Name: *; Vendor Code: *; Type: LED; CREATE_TIME: 24-Apr-2019
footprint SMD1204 3P
pins: 1 C1, 2 A, 3 C2
text: R; G

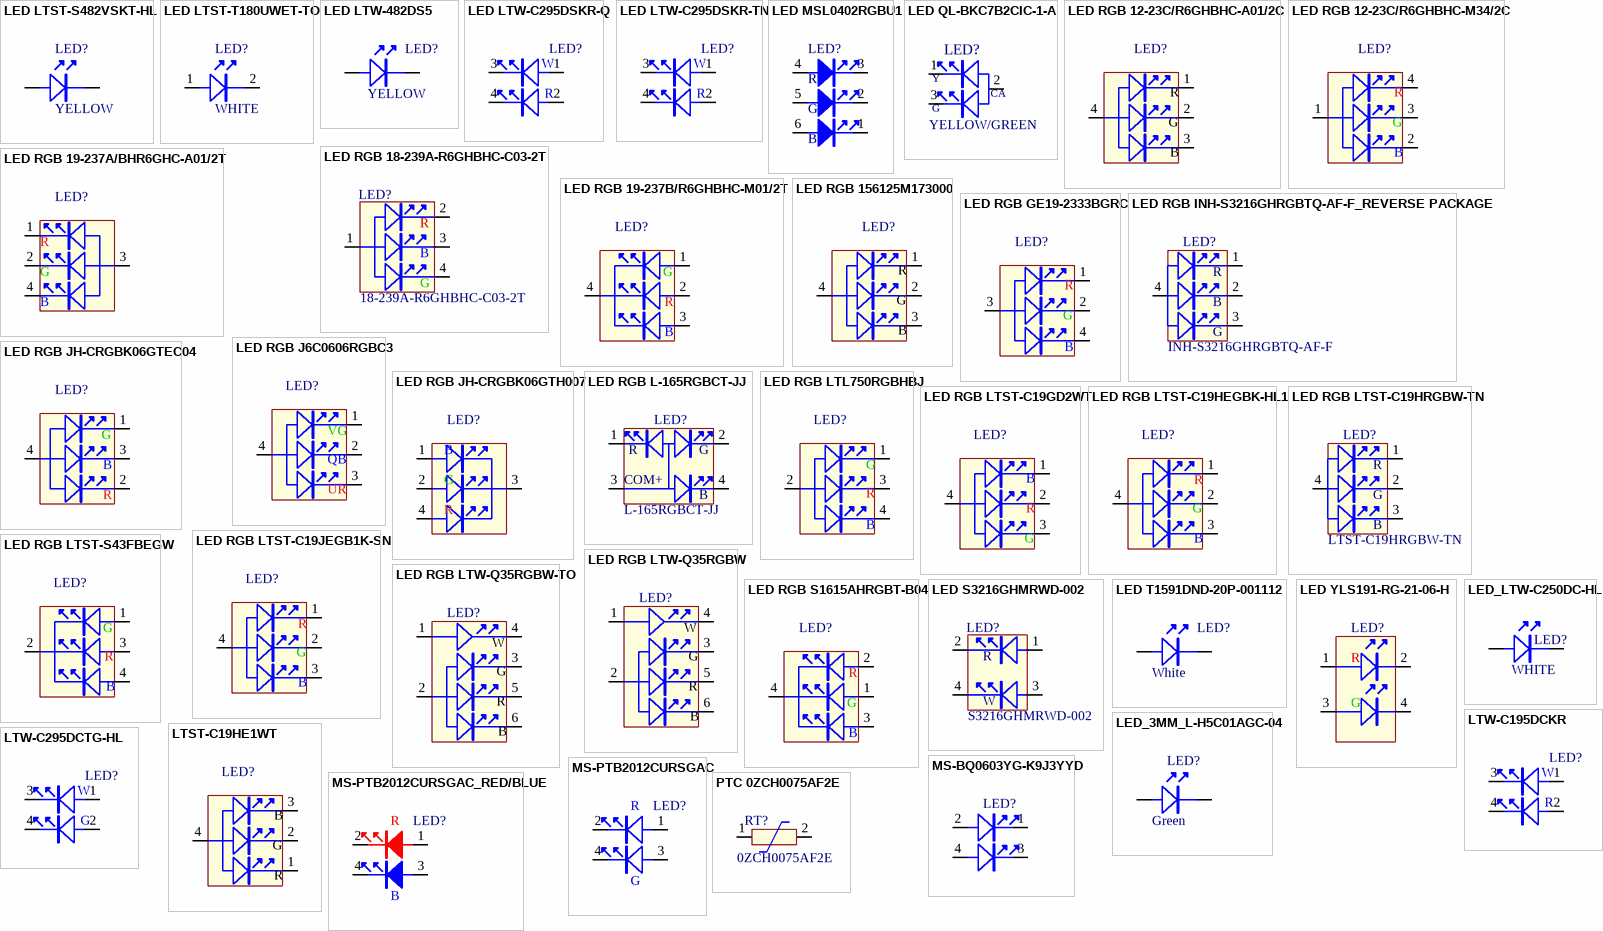
[diagram p3: symbols LED LTST-S482VSKT-HL to PTC 0ZCH0075AF2E]

## LED LTST-S482VSKT-HL
designator LED?  Color: YELLOW  (hidden comment: *)
LED LTST-S482VSKT-HL; MFG: LITE ON; CREATE_NAME: Nathan; DIP&SMD: SMD; MFG Part: LTST-S482VSKT-HL; SAP: *; Vendor Code: *; Vendor Name: *; Voltage: *; Type: LED; CREATE_TIME: 21-Jul-2020
footprint LED LTST-S482VSKT-HL
footprint LED LTST-S482
pins: 1 A, 2 C

## LED LTST-T180UWET-TO
designator LED?  Color: WHITE
LTST-T180UWET-TO; MFG: LITEON   (光寶); Type: LED; CREATE_NAME: Nathan; DIP&SMD: SMD; MFG Part: LTST-T180UWET-TO; SAP: *; Vendor Code: *; Vendor Name: *; Voltage: *; CREATE_TIME: 07-Dec-2020
footprint LED SMD L1.6W0.8 (SMD LED SIZE: 1.6*0.8*0.55)
pins: 1 A, 2 C

## LED LTW-482DS5
designator LED?  Color: YELLOW
LED 588 0603 LTST-C191KSK LITEON ( L; MFG Part: LTW-482DS5; MFG: LITEON (光寶); CREATE_NAME: Nathan; Lens Type: Water Clear; DIP&SMD: SMD; SAP: *; Package: *; Vendor Code: *; Vendor Name: *; Type: LED; CREATE_TIME: 26-Nov-2019
footprint LED SMD 1.8X0.68_RA
pins: 1 A, 2 K

## LED LTW-C295DSKR-Q
designator LED?  (value not drawn)
LED WHI 1.6*0.8 LTW-C295DSKR-Q  WHITE /RED; MFG: LITEON; CREATE_NAME: Nathan; DIP&SMD: SMD; SAP: *; MFG Part: LTW-C295DSKR-Q; Vendor Code: *; Vendor Name: *; Type: LED; CREATE_TIME: 13-Oct-2020
footprint SMTLED LTW-C295DSKR-Q (LED WHI 1.6*0.8. LTW-C295DSKR-Q  WHITE /RED)
pins: 1, 2, 3, 4
text: W; R

## LED LTW-C295DSKR-TN
designator LED?
LED WHI 1.6*0.8 LTW-C295DSKR-TN  WHITE /RED; MFG: LITEON; CREATE_NAME: Nathan; DIP&SMD: SMD; SAP: *; MFG Part: LTW-C295DSKR-TN; Vendor Code: *; Vendor Name: *; Type: LED; CREATE_TIME: 04-Jun-2021
footprint SMTLED_1.6X0.8X0.55_0603 (LED WHI 1.6*0.8.*0.55)
pins: 1, 2, 3, 4
text: W; R

## LED MSL0402RGBU1
designator LED?, comment T575012220216  (value not drawn)
LED 527 0706 MSL0402RGBU1 ROHM K; CREATE_NAME: Tom; Color: R/G/B; DIP&SMD: SMD; SAP: T575012220216; MFG Part: MSL0402RGBU1; Vendor Code: *; Vendor Name: *; MFG: ROHM; Type: LED; CREATE_TIME: 17-Apr-2019
footprint LED MSL0402RGBU1
pins: 1, 2, 3, 4, 5, 6
text: R; G; B

## LED QL-BKC7B2CIC-1-A
designator LED?, comment Color: YELLOW/GREEN  (hidden comment: KED450000-0010)
LED YELLOW/GREEN  D3MM QL-BKC7B2CIC-1-A DUAL COLOR COMMON ANODE; SAP: T575009900163; MFG: HONGBRIGHT; CREATE_NAME: Tom; DIP&SMD: DIP; Vendor Name: *; Vendor Code: *; Type: LED; CREATE_TIME: 14-Apr-2015; MFG Part: QL-BKC7B2CIC-1-A
footprint LED QL-BKC7B2CIC-1-A
pins: 1 Y, 2 C, 3 G
text: CA

## LED RGB 12-23C/R6GHBHC-A01/2C
designator LED?, comment T575013060202  (value not drawn)
LED-R 632 3X1MM 12-23C\R6GHB EVERLIGH K; MFG Part: 12-23C/R6GHBHC-A01/2C; MFG: EVERLIGHT(億光); Type: LED; Wavelength: 632\518\468NM; DIP&SMD: SMD; Corlor: RGB; SAP: T575013060202; Vendor Code: *; Vendor Name: *
footprint LED RGB 12-23C/R6GHBHC-A01/2C (RGB LED)
pins: 1 R, 2 G, 3 G, 4 COM
text: B

## LED RGB 12-23C/R6GHBHC-M34/2C
designator LED?
LED 3X1MM 112-23C\R6GHBHC-M34\2C; MFG: EVERLIGHT(億光); DIP&SMD: SMD; Corlor: RGB; CREATE_NAME: Nathan; MFG Part: 12-23C\R6GHBHC-M34\2C; SAP: *; Vendor Code: *; Vendor Name: *; Type: LED; CREATE_TIME: 27-May-2021
footprint LED RGB 12-23C (RGB LED)
pins: 1 R, 2 G, 3 G, 4 COM
text: B

## LED RGB 18-239A-R6GHBHC-C03-2T
designator LED?  MFG Part: 18-239A-R6GHBHC-C03-2T
SMD RBG LED INH-S1615BHRGBTP-B4; MFG: 东莞市明硕光电科技有限公司; CREATE_NAME: Nathan; SAP: *; Vendor Code: *; Vendor Name: *; Voltage: *; Package: *; CREATE_TIME: 25-Mar-2021; Current: *; Type: LED; DIP&SMD: SMD
footprint SMTLED 1.0X1.0X0.25_RGB_1A (LED RGB L1.0mmXW1.0 mm H0.25mm)
pins: 1 A, 2 R, 3 B, 4 G

## LED RGB 19-237A/BHR6GHC-A01/2T
designator LED?
LED-R RGB - 19-237A\BHR6GHC-A01\2T; MFG: MINGSHOU(明碩光電); CREATE_NAME: Nathan; Type: LED; DIP&SMD: SMD; SAP: *; Vendor Code: *; Vendor Name: *; MFG Part: 19-237A\BHR6GHC-A01\2T; CREATE_TIME: 19-Nov-2020
footprint SMTLED 1.6X1.6X0.35_RGB_3A (LED 1.6*1.6*0.35  RGB)
pins: 1 R, 2 G, 3 COM, 4 B

## LED RGB 19-237B/R6GHBHC-M01/2T
designator LED?
LED-R RGB - 19-237B\R6GH EVERLIGH L; MFG Part: 19-237B\R6GHBHC-M01\2T; SAP: T575013460202; MFG: MINGSHOU(明碩光電); CREATE_NAME: Nathan; Type: LED; DIP&SMD: SMD; Vendor Code: *; Vendor Name: *; CREATE_TIME: 19-Nov-2020
footprint SMTLED 1.6X1.6X0.35_RGB_4C (LED 1.6*1.6*0.5  RGB)
pins: 1 R, 2 G, 3 COM, 4 B

## LED RGB 156125M173000
designator LED?
LED-RGB 156125M173000; MFG: WURTH; Type: LED; DIP&SMD: SMD; Corlor: RGB; CREATE_NAME: Nathan; MFG Part: 156125M173000; Vendor Code: *; Vendor Name: *; Wavelength: *; CREATE_TIME: 10-Jun-2020
footprint LED 156125M173000 (SMD LED,156125M173000)
footprint LED 156125M173000_Reverse Mount (SMD LED,156125M173000 Reverse mount)
pins: 1 R, 2 G, 3 G, 4 COM
text: B

## LED RGB GE19-2333BGRC
designator LED?, comment T575012180258  (value not drawn)
LED R52 1615 GE19-2333BGR MINGSHOU K; MFG Part: GE19-2333BGRC; MFG: MINGSHOU(明碩光電); CREATE_NAME: Nathan; DIP&SMD: SMD; SAP: T575012180258; Vendor Code: *; Vendor Name: *; CREATE_TIME: 19-Dec-2017; Type: LED
footprint LED 1615 RGB GE19-2333BGRC (LED 1615 RGB L1.6mmXW1.5 mm H0.55mm)
pins: 1 R, 2 G, 3 COM, 4 B

## LED RGB INH-S3216GHRGBTQ-AF-F_REVERSE PACKAGE
designator LED?, comment MFG Part: INH-S3216GHRGBTQ-AF-F  (hidden comment: T575011440258)
LED-R R62 3.2MMX INH-S3216GHR MINGSHOU G; MFG: MINGSHOU(明碩光電); CREATE_NAME: Nathan; Type: LED; DIP&SMD: SMD; SAP: T575011440258; Vendor Code: *; Vendor Name: *; Voltage: *; Package: 1206全彩共陽反包; CREATE_TIME: 26-Aug-2016; Current: *
footprint LED SMD L3.2W1.6H1.1_REVERSE MOUNT (LED SMD  L3.2mmXW1.6 mm H1.1mm (1206 反貼))
pins: 1 R, 2 B, 3 G, 4 COM

## LED RGB J6C0606RGBC3
designator LED?
LED RGB 1.6*1.6 J6C0606RGBC3; MFG: LITEON (光寶); CREATE_NAME: Nathan; DIP&SMD: SMD; SAP: *; Vendor Code: *; Vendor Name: *; MFG Part: J6C0606RGBC3; CREATE_TIME: 15-Jan-2021; Type: LED
footprint SMTLED J6C0606RGBC3 (LED 1.6*1.6*0.6  RGB)
pins: 1 B, 2 R, 3 G, 4 COM
text: VG; QB; UR

## LED RGB JH-CRGBK06GTEC04
designator LED?
LED R52 1615 JH-CRGBK06GTEC04 MINGSHUO; CREATE_NAME: Nathan; DIP&SMD: SMD; SAP: *; Vendor Code: *; Vendor Name: *; MFG Part: JH-CRGBK06GTEC04; MFG: MING SHUO; CREATE_TIME: 27-Nov-2020; Type: LED
footprint SMTLED 1.6X1.5X0.6_RGB_4A (LED RGB L1.6mmXW1.5 mm H0.6mm)
pins: 1 B, 2 R, 3 G, 4 COM